# EAGLE library part BCR133U (library digital-transistors)
Dual NPN Silicon Digital Transistor 50V 0,1A 0,25W
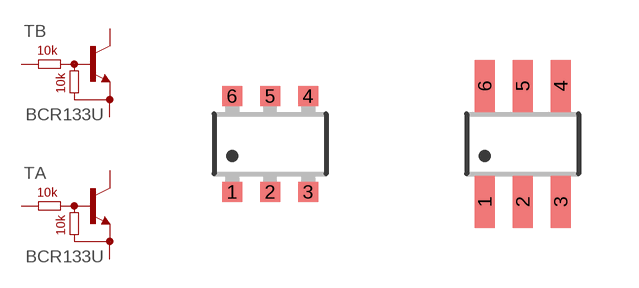
[diagram p18: symbol with the pads of SC74_INFINEON; footprints SC74_INFINEON, SC74-W_INFINEON]

Designator prefix T; gates A=DIGITRANS-NPN-10K-10K B=DIGITRANS-NPN-10K-10K

## BCR133U  [SC74_INFINEON]
1  A:E  pas
2  A:B  pas
3  B:C  pas
4  B:E  pas
5  B:B  pas
6  A:C  pas

## BCR133U-W  [SC74-W_INFINEON]
Pads as for SC74_INFINEON

## Footprint SC74_INFINEON (pad centres in mm)
Small Outline Transistor; 6 leads, 2.9mm*2.5mm, reflow soldering INFINEON, http://www.infineon.com/upload/Image/Packages/gpw09197.gif INFINEON, http://www.infineon.com/upload/Image/Packages/hlg09327.gif
smd 0.5 x 0.5: 1 -0.95,-1.2; 2 0,-1.2; 3 0.95,-1.2; 4 0.95,1.2; 5 0,1.2; 6 -0.95,1.2

## Footprint SC74-W_INFINEON (pad centres in mm)
Small Outline Transistor; 6 leads, 2.9mm*2.5mm, wave soldering INFINEON, http://www.infineon.com/upload/Image/Packages/gpw09197.gif INFINEON, http://www.infineon.com/upload/Image/Packages/hlgf1054.gif
smd 0.5 x 1.3: 1 -0.95,-1.45; 2 0,-1.45; 3 0.95,-1.45; 4 0.95,1.45; 5 0,1.45; 6 -0.95,1.45